# Altium integrated library AD8403ARZ10.IntLib: 1 symbol
Pins are listed as number, name and electrical type; pins without a type are passive.

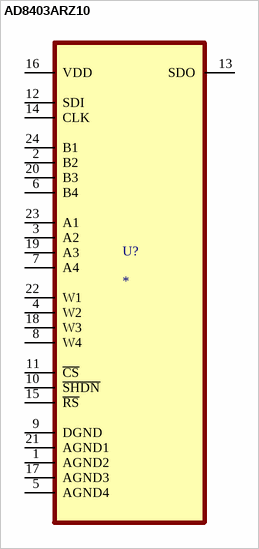
[diagram p0: symbol AD8403ARZ10]

## AD8403ARZ10
designator U?
Digital Potentiometer 100k Ohm 4 Circuit 256 Taps SPI Interface 24-SOIC; MF: Analog Devices; MP: AD8403ARZ10; Check_prices: https://www.snapeda.com/parts/AD8403ARZ10/Analog%20Devices%20Inc./view-part/357516/?ref=eda; Value: *; Package: SOIC -24 Analog Devices; Purchase-URL: https://pricing.snapeda.com/search/part/AD8403ARZ10/?ref=eda; Price: None; SnapEDA_Link: https://www.snapeda.com/parts/AD8403ARZ10/Analog%20Devices%20Inc./view-part/357516/?ref=snap; Availability: Warning
footprint SOIC127P1032X265-24N
pins: 1 AGND2, 2 B2, 3 A2, 4 W2, 5 AGND4, 6 B4, 7 A4, 8 W4, 9 DGND, 10 ~{SHDN}, 11 ~{CS}, 12 SDI, 13 SDO, 14 CLK, 15 ~{RS}, 16 VDD (power), 17 AGND3, 18 W3, 19 A3, 20 B3, 21 AGND1, 22 W1, 23 A1, 24 B1